# Altium schematic symbol library SRR3818A-1R0Y.SchLib: 1 symbol
Pins are listed as number, name and electrical type; pins without a type are passive.

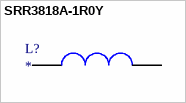
[diagram p0: symbol SRR3818A-1R0Y]

## SRR3818A-1R0Y
designator L?
pins: 1 (power), 2 (power)